# Altium schematic symbol library LM158.SchLib: 1 symbol
Pins are listed as number, name and electrical type; pins without a type are passive.

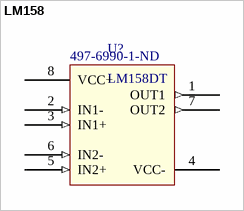
[diagram p0: symbol LM158]

## LM158
designator U?, comment LM158DT  Supplier Part Number 1: 497-6990-1-ND
General Purpose Amplifier 2 Circuit 8-SOIC, operating temperature range -55°C ~ 125°C; ComponentLink1Description: Datasheet; ComponentLink1URL: https://www.st.com/content/ccc/resource/technical/document/datasheet/61/46/87/01/98/ed/44/c5/CD00000464.pdf/files/CD00000464.pdf/jcr:content/translations/en.CD00000464.pdf; Supplier 1: Digi-Key
footprint SOIC127P500X600-8N
pins: 1 OUT1 (out), 2 IN1- (in), 3 IN1+ (in), 4 VCC- (power), 5 IN2+ (in), 6 IN2- (in), 7 OUT2 (out), 8 VCC+ (power)